# Altium schematic symbol library EVAL-CN0349-PMDZ-AltiumDesigner LibrarySchematic.SchLib: 9 symbols
Pins are listed as number, name and electrical type; pins without a type are passive.

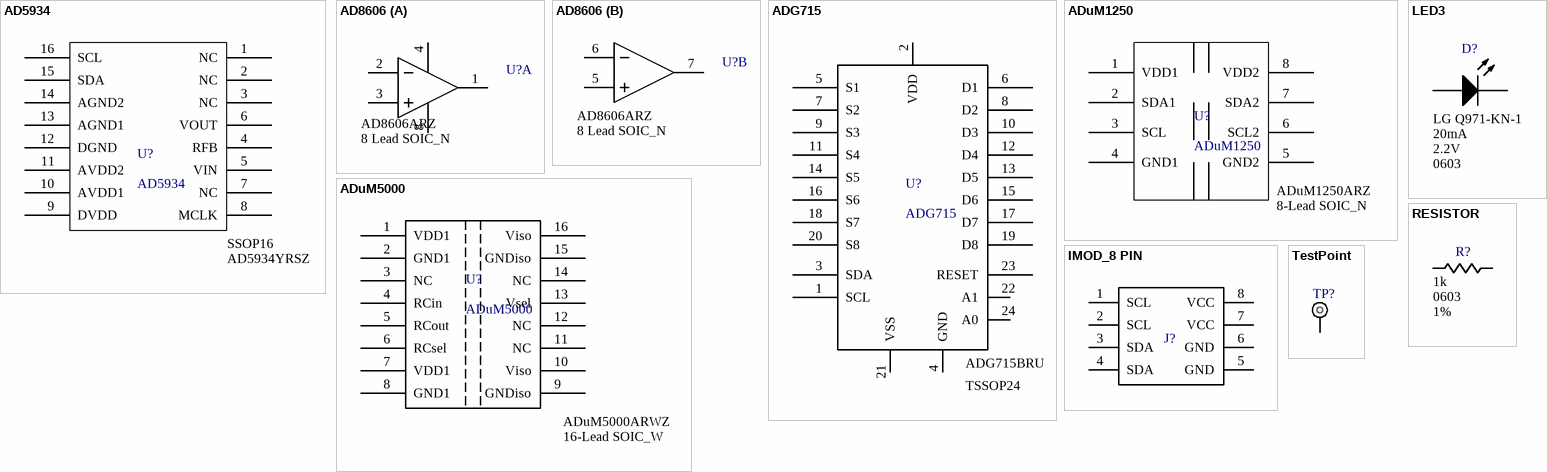
[diagram p0: symbols AD5934 to TestPoint]

## AD5934
designator U?  value AD5934YRSZ  Footprint: SSOP16
Integrated Circuit
footprint SSOP16
pins: 1 NC, 2 NC, 3 NC, 4 RFB, 5 VIN, 6 VOUT, 7 NC, 8 MCLK, 9 DVDD, 10 AVDD1, 11 AVDD2, 12 DGND, 13 AGND1, 14 AGND2, 15 SDA, 16 SCL

## AD8606
designator U?  value AD8606ARZ  Footprint: 8 Lead SOIC_N
Dual Operational Amplifier; Part Number: 30-025209-01
footprint SO-8
part A pins: 1 OUTA, 2 -INA, 3 +INA, 4 V- (power), 8 V+ (power)
part B pins: 5 +INB, 6 -INB, 7 OUTB

## ADG715
designator U?  value ADG715BRU  Footprint: TSSOP24
Integrated Switch
footprint TSSOP24
pins: 1 SCL, 2 VDD, 3 SDA, 4 GND, 5 S1, 6 D1, 7 S2, 8 D2, 9 S3, 10 D3, 11 S4, 12 D4, 13 D5, 14 S5, 15 D6, 16 S6, 17 D7, 18 S7, 19 D8, 20 S8, 21 VSS, 22 A1, 23 RESET, 24 A0

## ADuM1250
designator U?  value ADuM1250ARZ  Footprint: 8-Lead SOIC_N
Integrated Circuit
footprint SOICN_8
pins: 1 VDD1, 2 SDA1, 3 SCL, 4 GND1, 5 GND2, 6 SCL2, 7 SDA2, 8 VDD2

## ADuM5000
designator U?  value ADuM5000ARWZ  Footprint: 16-Lead SOIC_W
Integrated Circuit
footprint SOICW_16
pins: 1 VDD1, 2 GND1, 3 NC, 4 RCin, 5 RCout, 6 RCsel, 7 VDD1, 8 GND1, 9 GNDiso, 10 Viso, 11 NC, 12 NC, 13 Vsel, 14 NC, 15 GNDiso, 16 Viso

## IMOD_8 PIN
designator J?  (value not drawn)
footprint IMOD_8PIN_I2C
pins: 1 SCL, 2 SCL, 3 SDA, 4 SDA, 5 GND, 6 GND, 7 VCC, 8 VCC

## LED3
designator D?  value LG Q971-KN-1  Drop Voltage: 2.2V  Footprint: 0603  Current: 20mA  (hidden comment: LED3)
LED; Part Number: LG Q971-KN-1-0-20-R18
pins: A, K

## RESISTOR
designator R?  value 1k  Footrprint: 0603  Tolerance: 1%
SMD Resistor
pins: 1, 2

## TestPoint
designator TP?
footprint TestPoint
pins: 1